# Altium schematic symbol library PTS12066V050.SchLib: 1 symbol
Pins are listed as number, name and electrical type; pins without a type are passive.

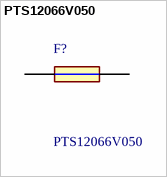
[diagram p0: symbol PTS12066V050]

## PTS12066V050
designator F?
EATON BUSSMANN SERIES - PTS12066V050 - PPTC RESETTABLE FUSE, 0.5A, 6VDC, SMD; Geometry.Height: 0.68mm; RS Part Number: *; RS Price/Stock: *; Manufacturer_Name: Eaton; Manufacturer_Part_Number: PTS12066V050; Datasheet Link: https://datasheet.datasheetarchive.com/originals/distributors/Datasheets_SAMA/e66d371ed70f5642c3d30d44a7b862be.pdf
footprint FUSC3216X68N
pins: 1, 2